# EAGLE library part BREAKOUT_SOIC8 (library microbuilder)
SOIC8 IC Breakout
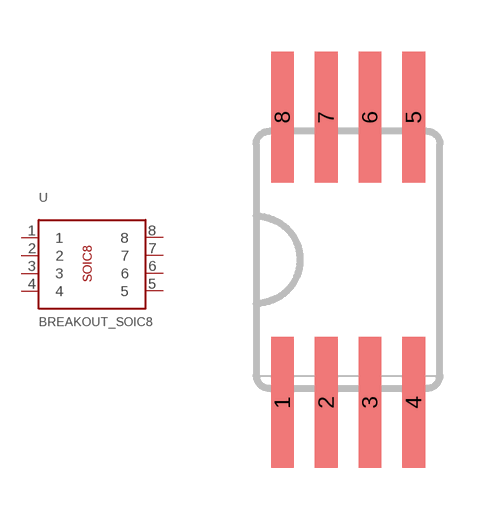
[diagram p145: symbol with the pads of BREAKOUT_SOIC8; footprint BREAKOUT_SOIC8]

Designator prefix U

## BREAKOUT_SOIC8  [BREAKOUT_SOIC8]
1  1
2  2
3  3
4  4
5  5
6  6
7  7
8  8

## Footprint BREAKOUT_SOIC8 (pad centres in mm)
smd 0.66 x 3.81: 1 -1.905,-4.14; 2 -0.635,-4.14; 3 0.635,-4.14; 4 1.905,-4.14; 5 1.905,4.14; 6 0.635,4.14; 7 -0.635,4.14; 8 -1.905,4.14